# Altium schematic symbol library PCA9557PWR.Schlib: 1 symbol
Pins are listed as number, name and electrical type; pins without a type are passive.

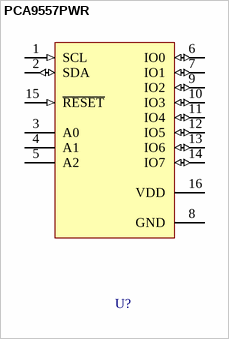
[diagram p0: symbol PCA9557PWR]

## PCA9557PWR
designator U?
8-bit I2C-bus and SMBus I/O port with reset
pins: 1 SCL (in), 2 SDA (io), 3 A0, 4 A1, 5 A2, 6 IO0 (io), 7 IO1 (io), 8 GND (power), 9 IO2 (io), 10 IO3 (io), 11 IO4 (io), 12 IO5 (io), 13 IO6 (io), 14 IO7 (io), 15 ~{RESET} (in), 16 VDD (power)